# EAGLE library part AK130/21 (library PTR_AK130)
ANSCHLUSSKLEMME AK130 (21POLIG)
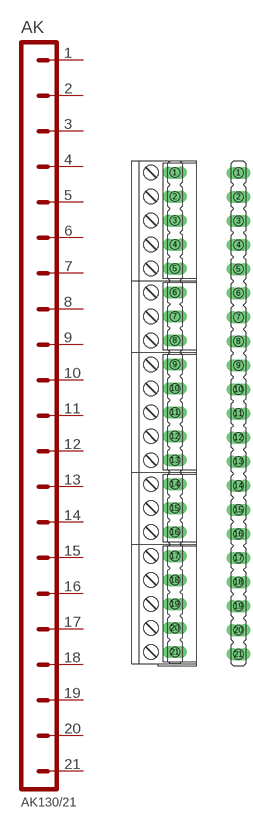
[diagram p15: symbol with the pads of AK21; footprints AK21, STL21]

Designator prefix AK

## AK130/21  [AK21]
1  P$1
2  P$2
3  P$3
4  P$4
5  P$5
6  P$6
7  P$7
8  P$8
9  P$9
10  P$10
11  P$11
12  P$12
13  P$13
14  P$14
15  P$15
16  P$16
17  P$17
18  P$18
19  P$19
20  P$20
21  P$21

## AK130/21_STL  [STL21]
Pads as for AK21

## Footprint AK21 (pad centres in mm)
AK130 (21POLIG) 2x AK130/3-5.0-GRAU 3x AK130/5-5.0-GRAU STL130/24-5.0-V-SCHWARZ
drill 1.5 pad 2.54 long: 1 0,50; 2 0,45; 3 0,40; 4 0,35; 5 0,30; 6 0,25; 7 0,20; 8 0,15; 9 0,10; 10 0,5; 11 0,0; 12 0,-5; 13 0,-10; 14 0,-15; 15 0,-20; 16 0,-25; 17 0,-30; 18 0,-35; 19 0,-40; 20 0,-45; 21 0,-50

## Footprint STL21 (pad centres in mm)
STL130 (21POLIG) STL130/24-5.0-V-SCHWARZ
drill 1.5 pad 2.54 long: 1 0,50; 2 0,45; 3 0,40; 4 0,35; 5 0,30; 6 0,25; 7 0,20; 8 0,15; 9 0,10; 10 0,5; 11 0,0; 12 0,-5; 13 0,-10; 14 0,-15; 15 0,-20; 16 0,-25; 17 0,-30; 18 0,-35; 19 0,-40; 20 0,-45; 21 0,-50